# Altium schematic symbol library PCM3060PWR.SchLib: 1 symbol
Pins are listed as number, name and electrical type; pins without a type are passive.

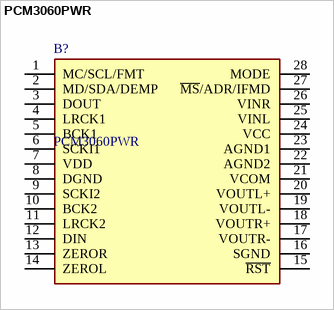
[diagram p0: symbol PCM3060PWR]

## PCM3060PWR
designator B?
24-bit Asynchronous Stereo Audio Codec with 96/192kHz sampling rate; Manufacturer_Name: Texas Instruments; Geometry.Height: 1.2mm; Manufacturer_Part_Number: PCM3060PWR; Mouser Part Number: 595-PCM3060PWR; Mouser Price/Stock: https://www.mouser.co.uk/ProductDetail/Texas-Instruments/PCM3060PWR?qs=W5eanQMd1BA4oHiQoX9kuw%3D%3D; Arrow Part Number: PCM3060PWR; Arrow Price/Stock: https://www.arrow.com/en/products/pcm3060pwr/texas-instruments?utm_currency=USD&region=nac; Datasheet Link: https://www.ti.com/lit/ds/symlink/pcm3060.pdf?ts=1606824200789&ref_url=https%253A%252F%252Fwww.ti.com%252Fstore%252Fti%252Fen%252Fp%252Fproduct%252F%253Fp%253DPCM3060PWR%2526keyMatch%253DPCM3060PWR%2526tisearch%253DSearch-EN-everything%2526usecase%253DOPN
footprint SOP65P640X120-28N
pins: 1 MC/SCL/FMT, 2 MD/SDA/DEMP, 3 DOUT, 4 LRCK1, 5 BCK1, 6 SCKI1, 7 VDD, 8 DGND, 9 SCKI2, 10 BCK2, 11 LRCK2, 12 DIN, 13 ZEROR, 14 ZEROL, 15 ~{RST}, 16 SGND, 17 VOUTR-, 18 VOUTR+, 19 VOUTL-, 20 VOUTL+, 21 VCOM, 22 AGND2, 23 AGND1, 24 VCC, 25 VINL, 26 VINR, 27 ~{MS}/ADR/IFMD, 28 MODE